# Altium schematic symbol library LED Matrix.SchLib: 2 symbols
Pins are listed as number, name and electrical type; pins without a type are passive.

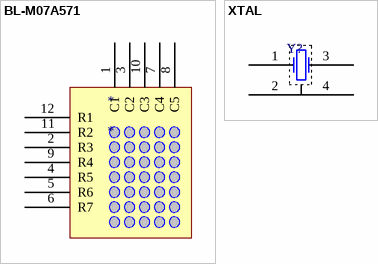
[diagram p0: symbols BL-M07A571 to XTAL]

## BL-M07A571
designator *
footprint LED matrix 7x5
pins: 1 C1, 2 R3, 3 C2, 4 R5, 5 R6, 6 R7, 7 C4, 8 C5, 9 R4, 10 C3, 11 R2, 12 R1

## XTAL
designator Y?, comment Кварцевый резонатор  (value not drawn)
footprint HC 49SM (Кварцевый резонатор)
pins: 1, 2, 3, 4 5